# Altium footprint library ECEN_1400.PcbLib: 52 footprints (part 3 of 4)
Each footprint in its own frame and in the unit in brackets; x right, y up, seen from the top. Pads: shape width x height; smd on the part's side, far side on the other; paste and mask are expansions set on the pad; w line width, h text height; cw(c..) or ccw(c..) is an arc to the next point about the centre after c.
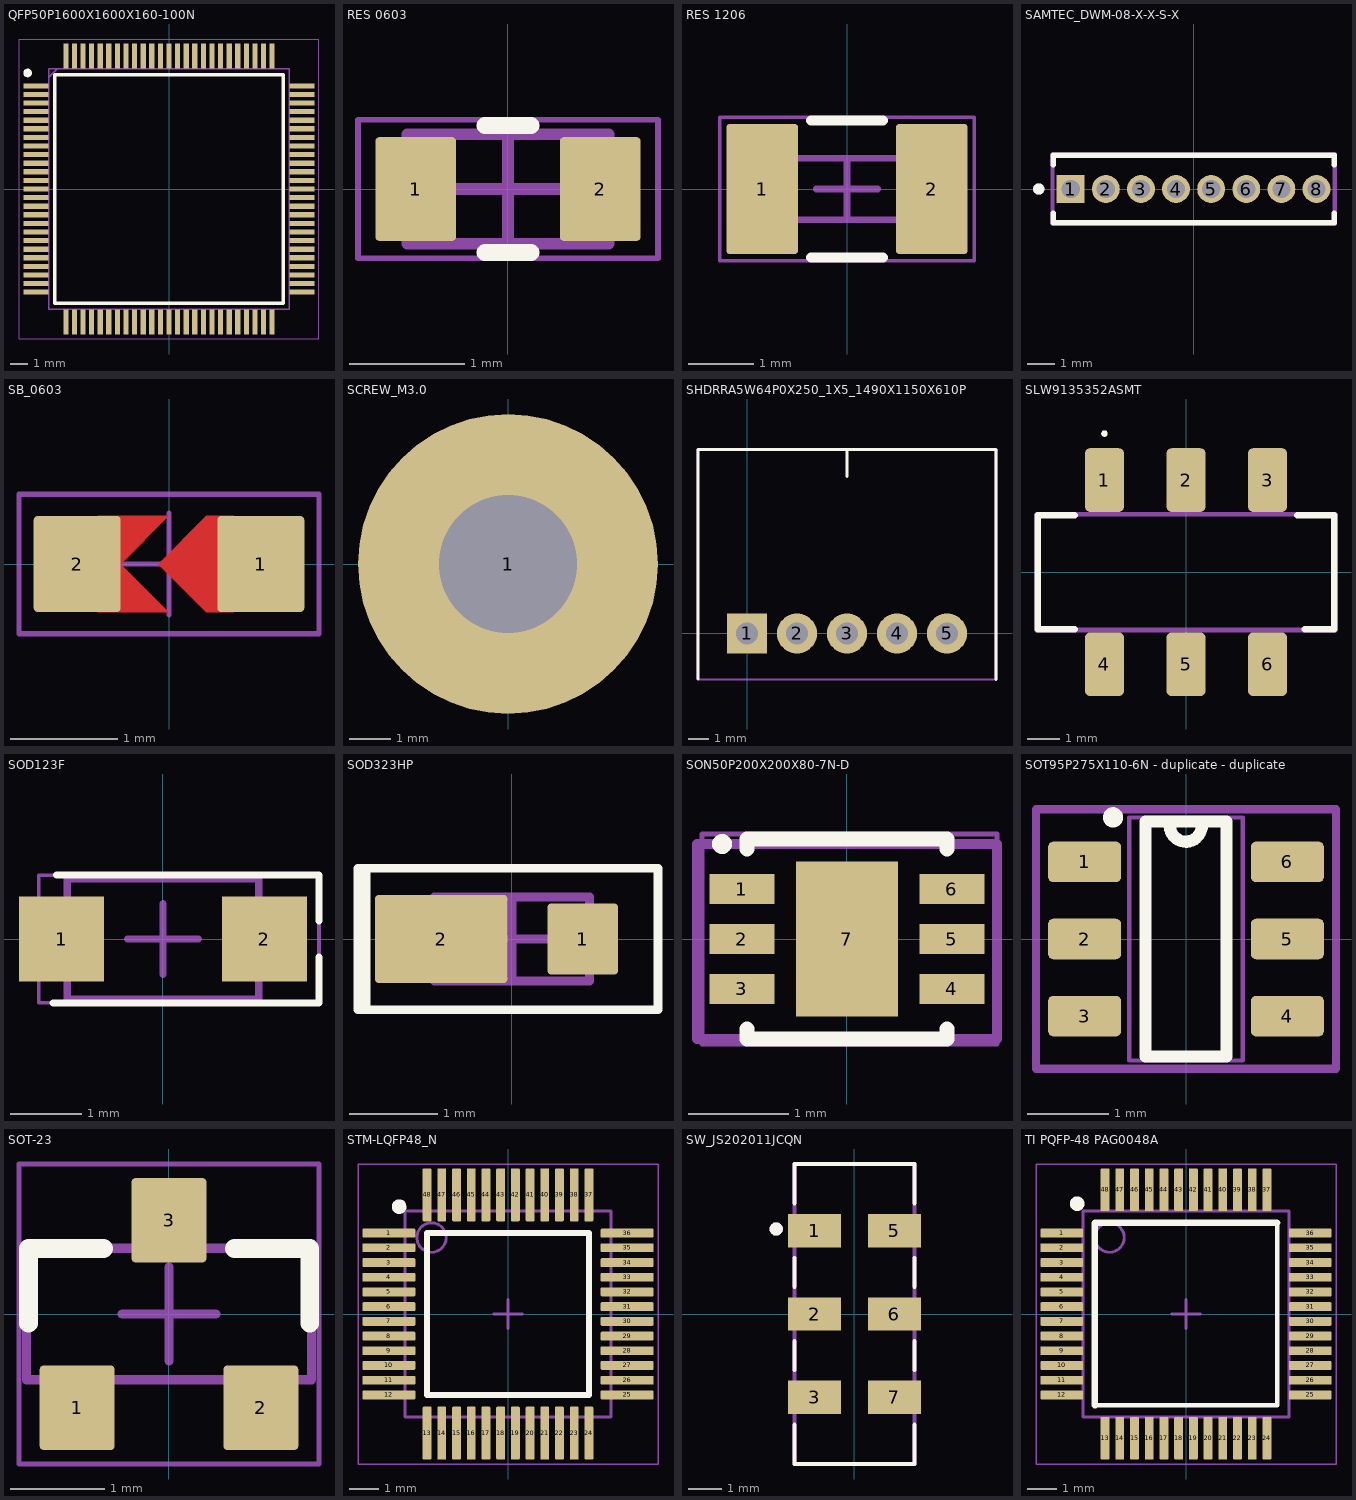
[diagram p2: the footprints below, top view; thin cyan lines are the x and y axes]

## QFP50P1600X1600X160-100N [mm]
pads (100):
  rect 1.475x0.3 smd: 1(-7.738,6) 2(-7.738,5.5) 3(-7.738,5) 4(-7.738,4.5) 5(-7.738,4) 6(-7.738,3.5) 7(-7.738,3) 8(-7.738,2.5) 9(-7.738,2) 10(-7.738,1.5) 11(-7.738,1) 12(-7.738,0.5) 13(-7.738,0) 14(-7.738,-0.5) 15(-7.738,-1) 16(-7.738,-1.5) 17(-7.738,-2) 18(-7.738,-2.5) 19(-7.738,-3) 20(-7.738,-3.5) 21(-7.738,-4) 22(-7.738,-4.5) 23(-7.738,-5) 24(-7.738,-5.5) 25(-7.738,-6) 51(7.738,-6) 52(7.738,-5.5) 53(7.738,-5) 54(7.738,-4.5) 55(7.738,-4) 56(7.738,-3.5) 57(7.738,-3) 58(7.738,-2.5) 59(7.738,-2) 60(7.738,-1.5) 61(7.738,-1) 62(7.738,-0.5) 63(7.738,0) 64(7.738,0.5) 65(7.738,1) 66(7.738,1.5) 67(7.738,2) 68(7.738,2.5) 69(7.738,3) 70(7.738,3.5) 71(7.738,4) 72(7.738,4.5) 73(7.738,5) 74(7.738,5.5) 75(7.738,6)
  rect 0.3x1.475 smd: 26(-6,-7.738) 27(-5.5,-7.738) 28(-5,-7.738) 29(-4.5,-7.738) 30(-4,-7.738) 31(-3.5,-7.738) 32(-3,-7.738) 33(-2.5,-7.738) 34(-2,-7.738) 35(-1.5,-7.738) 36(-1,-7.738) 37(-0.5,-7.738) 38(0,-7.738) 39(0.5,-7.738) 40(1,-7.738) 41(1.5,-7.738) 42(2,-7.738) 43(2.5,-7.738) 44(3,-7.738) 45(3.5,-7.738) 46(4,-7.738) 47(4.5,-7.738) 48(5,-7.738) 49(5.5,-7.738) 50(6,-7.738) 76(6,7.738) 77(5.5,7.738) 78(5,7.738) 79(4.5,7.738) 80(4,7.738) 81(3.5,7.738) 82(3,7.738) 83(2.5,7.738) 84(2,7.738) 85(1.5,7.738) 86(1,7.738) 87(0.5,7.738) 88(0,7.738) 89(-0.5,7.738) 90(-1,7.738) 91(-1.5,7.738) 92(-2,7.738) 93(-2.5,7.738) 94(-3,7.738) 95(-3.5,7.738) 96(-4,7.738) 97(-4.5,7.738) 98(-5,7.738) 99(-5.5,7.738) 100(-6,7.738)
Top Overlay:
  circle w0.25: c-8.225,6.75 r0.125
  lines w0.2: -6.65,-6.65 6.65,-6.65 6.65,6.65 -6.65,6.65 -6.65,-6.65
Mechanical 15:
  lines w0.1: -7,6.5 -6.5,7 ; -7,-7 7,-7 7,7 -7,7 -7,-7
Mechanical 20:
  lines w0.05: -8.725,-8.725 8.725,-8.725 8.725,8.725 -8.725,8.725 -8.725,-8.725

## RES 0603 [mm] "Chip Resistor, 2-Leads, Body 1.60x0.80mm"
height 0.45
pads (2):
  rrect10% 0.7x0.9 smd: 1(-0.8,0) 2(0.8,0)
Top Overlay:
  lines w0.15: -0.2,-0.55 0.2,-0.55 ; -0.2,0.55 0.2,0.55
Top Courtyard:
  lines w0.05: -1.3,-0.6 1.3,-0.6 1.3,0.6 -1.3,0.6 -1.3,-0.6
Mechanical 13:
  lines w0.1: -0.875,-0.475 -0.875,0.475 0.875,0.475 0.875,-0.475 -0.875,-0.475
Mechanical 15:
  lines w0.1: -0.475,0 0.475,0 ; 0,-0.475 0,0.475
Mechanical 20:
  lines w0.05: -1.3,-0.6 1.3,-0.6 1.3,0.6 -1.3,0.6 -1.3,-0.6
3D body "0603 resistor.STEP": height 0.45, standoff 0, extent -0.8,-0.4 0.8,0.4

## RES 1206 [mm] "Chip Resistor, 2-Leads, Body 1.60x0.80mm"
height 0.45
pads (2):
  rrect10% 1.1x2 smd: 1(-1.3,0) 2(1.3,0)
Top Overlay:
  lines w0.15: -0.55,-1.05 0.55,-1.05 ; -0.55,1.05 0.55,1.05
Mechanical 13:
  lines w0.1: -0.875,-0.475 0.875,-0.475 0.875,0.475 -0.875,0.475 -0.875,-0.475
Mechanical 15:
  lines w0.05: -1.95,-1.1 1.95,-1.1 1.95,1.1 -1.95,1.1 -1.95,-1.1
  lines w0.1: -0.475,0 0.475,0 ; 0,-0.475 0,0.475
Mechanical 20:
  lines w0.05: -1.95,-1.1 1.95,-1.1 1.95,1.1 -1.95,1.1 -1.95,-1.1
3D body "0603 resistor.STEP": height 0.45, standoff 0, extent -0.8,-0.4 0.8,0.4

## SAMTEC_DWM-08-X-X-S-X [mm]
pads (8):
  rect 1.01x1.01 / inner round 1.01 / far side rect 1.01x1.01 hole 0.66: 1(-4.445,0)
  round 1.01 hole 0.66: 2(-3.175,0) 3(-1.905,0) 4(-0.635,0) 5(0.635,0) 6(1.905,0) 7(3.175,0) 8(4.445,0)
Top Overlay:
  circle w0.2: c-5.6,0 r0.1
  lines w0.2: -5.08,-0.87 -5.08,-1.22 5.08,-1.22 5.08,-0.87 ; -5.08,0.87 -5.08,1.22 5.08,1.22 5.08,0.87
Mechanical 13:
  circle w0.2: c-5.6,0 r0.1
  lines w0.1: -5.08,-1.22 -5.08,1.22 5.08,1.22 5.08,-1.22 -5.08,-1.22
Mechanical 15:
  lines w0.05: -5.15,-1.3 -5.15,1.3 5.15,1.3 5.15,-1.3 -5.15,-1.3

## SB_0603 [mm] "Jumper"
height 1
pads (2):
  rrect10% 0.813x0.9 smd mask+0.04: 1(0.857,0) 2(-0.857,0)
Top Layer:
  region: -0.667,0 -0.45,0 0,-0.45 -0.667,-0.45
  region: -0.667,0 -0.45,0 0,0.45 -0.667,0.45
  region: 0.603,0.45 0.35,0.45 -0.1,0 0.35,-0.45 0.603,-0.45
Top Solder:
  region: -0.737,0 -0.381,0 0.119,0.49 -0.737,0.49
  region: -0.737,0 -0.381,0 0.119,-0.49 -0.737,-0.49
  region: 0.684,0.49 0.32,0.49 -0.18,0 0.32,-0.49 0.684,-0.49
Mechanical 15:
  lines w0.05: -0.475,0 0.475,0 ; 0,-0.475 0,0.475 ; -1.4,-0.65 -1.4,0.65 1.4,0.65 1.4,-0.65 -1.4,-0.65

## SCREW_M3.0 [mm] "M3 Screw Close FIt"
pads (1):
  round 7.2 hole 3.301: 1(0,0)

## SHDRRA5W64P0X250_1X5_1490X1150X610P [mm]
pads (5):
  rect 2x2 / inner round 2 / far side rect 2x2 hole 1.1: 1(0,0)
  round 2 hole 1.1: 2(2.5,0) 3(5,0) 4(7.5,0) 5(10,0)
Top Overlay:
  lines w0.15: -2.45,-2.286 -2.45,9.2 12.45,9.2 12.45,-2.3 ; 5,7.85 5,9.2
Mechanical 15:
  lines w0.004: -2.45,-2.3 -2.45,9.2
  lines w0.1: -2.45,-2.3 12.45,-2.3
  lines w0.15: -2.45,9.2 12.45,9.2 12.45,-2.3
Mechanical 20:
  lines w0.05: -2.5,-2.3 -2.5,9.25 12.5,9.25 12.5,-2.3 -2.5,-2.3

## SLW9135352ASMT [mm]
pads (6):
  rrect25% 1.2x1.95 smd: 1(-2.5,2.825) 2(0,2.825) 3(2.5,2.825) 4(-2.5,-2.825) 5(0,-2.825) 6(2.5,-2.825)
Top Overlay:
  lines w0.1: -2.5,4.2 cw(c-2.5,4.25) -2.5,4.3 cw(c-2.5,4.25) -2.5,4.2
  lines w0.2: -4.095,1.75 -3.413,1.75 ; -3.64,1.75 -4.55,1.75 -4.55,-1.75 -3.413,-1.75 ; 3.412,1.75 4.55,1.75 4.55,-1.75 3.64,-1.75
Mechanical 15:
  lines w0.1: -4.55,-1.75 4.55,-1.75 4.55,1.75 -4.55,1.75 -4.55,-1.75
Mechanical 20:
  lines w0.1: -4.6,-1.8 4.6,-1.8 4.6,1.8 -4.6,1.8 -4.6,-1.8

## SOD123F [mm] "SODFL, 2-Leads, Body 1.60x3.50mm, IPC Medium Density"
height 1
pads (2):
  rect 1.2x1.2 smd: 1(-1.43,0) 2(1.43,0)
Top Overlay:
  lines w0.1: -1.55,-0.9 2.2,-0.9 2.2,-0.254 ; -1.5,0.9 2.2,0.9 2.2,0.254
Mechanical 13:
  lines w0.1: -1.35,-0.85 -1.35,0.85 1.35,0.85 1.35,-0.85 -1.35,-0.85
Mechanical 15:
  lines w0.05: -1.75,-0.9 2.2,-0.9 2.2,0.9 -1.75,0.9 -1.75,-0.9
  lines w0.1: -0.5,0 0.5,0 ; 0,-0.5 0,0.5
Mechanical 20:
  lines w0.05: -1.75,-0.9 2.2,-0.9 2.2,0.9 -1.75,0.9 -1.75,-0.9
3D body "SOD123F.STEP": height 1.1, standoff 0, extent -1.75,-0.8 1.75,0.8

## SOD323HP [mm] "Chip Resistor, 2-Leads, Body 1.60x0.80mm"
height 0.45
pads (2):
  rrect10% 0.8x0.8 smd: 1(0.8,0)
  rrect10% 1.5x1 smd: 2(-0.8,0)
Top Overlay:
  lines w0.1: -1.74,-0.71 -1.74,0.71 -1.65,0.8 ; -1.377,-0.8 -1.74,-0.8 -1.74,0.8 -1.65,0.8 ; -1.65,0.8 -1.65,-0.8 1.65,-0.8 1.65,0.8 -1.65,0.8
Mechanical 13:
  lines w0.1: -0.875,-0.475 0.875,-0.475 0.875,0.475 -0.875,0.475 -0.875,-0.475
Mechanical 15:
  lines w0.05: -1.74,-0.8 1.65,-0.8 1.65,0.8 -1.74,0.8 -1.74,-0.8
  lines w0.1: -0.475,0 0.475,0 ; 0,-0.475 0,0.475
Mechanical 20:
  lines w0.05: -1.74,-0.8 1.65,-0.8 1.65,0.8 -1.74,0.8 -1.74,-0.8
3D body "0603 resistor.STEP": height 0.45, standoff 0, extent -0.8,-0.4 0.8,0.4

## SON50P200X200X80-7N-D [mm]
pads (7):
  rect 0.65x0.3 smd: 1(-1.05,0.5) 2(-1.05,0) 3(-1.05,-0.5) 4(1.05,-0.5) 5(1.05,0) 6(1.05,0.5)
  rect 1.02x1.55 smd: 7(0,0)
Top Overlay:
  circle w0.15: c-1.25,0.95 r0.025
  lines w0.15: -1,-0.9 -1,-1 1,-1 ; -1,0.9 -1,1 1,1 ; 1,-0.9 1,-1 ; 1,0.9 1,1 ; 1,-1 1,-1 ; 1,1 1,1
Mechanical 15:
  lines w0.1: -1.5,-1 -1.5,0.95 1.5,0.95 1.5,-1 -1.5,-1
Mechanical 20:
  lines w0.05: -1.45,-1.05 1.5,-1.05 1.5,1.05 -1.45,1.05 -1.45,-1.05

## SOT95P275X110-6N - duplicate - duplicate [mm]
pads (6):
  rrect25% 0.9x0.5 smd: 1(-1.25,0.95) 2(-1.25,0) 3(-1.25,-0.95) 4(1.25,-0.95) 5(1.25,0) 6(1.25,0.95)
Top Overlay:
  circle w0.15: c-0.9,1.5 r0.05
  lines w0.15: -0.198,1.423 ccw(c-0.002,1.398) 0.195,1.406 ; -0.5,-1.45 -0.5,1.45 0.5,1.45 0.5,-1.45 -0.5,-1.45
Mechanical 15:
  lines w0.1: -1.85,-1.6 -1.85,1.6 1.85,1.6 1.85,-1.6 0.75,-1.6 -1.85,-1.6
Mechanical 20:
  lines w0.05: -0.7,-1.5 -0.7,1.5 0.7,1.5 0.7,-1.5 -0.7,-1.5

## SOT-23 [mm]
height 1.1
pads (3):
  rrect10% 0.8x0.9 smd: 1(-0.98,-1) 2(0.98,-1) 3(0,1)
Top Overlay:
  lines w0.2: -1.5,-0.1 -1.5,0.7 -0.7,0.7 ; 0.7,0.7 1.5,0.7 1.5,-0.1
Mechanical 13:
  lines w0.1: -1.52,-0.7 1.52,-0.7 1.52,0.7 -1.52,0.7 -1.52,-0.7
Mechanical 15:
  lines w0.05: -1.6,-1.6 1.6,-1.6 1.6,1.6 -1.6,1.6 -1.6,-1.6
  lines w0.1: -0.5,0 0.5,0 ; 0,-0.5 0,0.5
3D body: height 1.11, standoff 0.01, extent -1.52,-0.7 1.52,0.7

## STM-LQFP48_N [mm] "QFP, 48-Leads, Body 7x7mm, Pitch 0.5mm, IPC Medium Density"
height 1.6
pads (48):
  rrect25% 1.8x0.3 smd: 1(-4.05,2.75) 2(-4.05,2.25) 3(-4.05,1.75) 4(-4.05,1.25) 5(-4.05,0.75) 6(-4.05,0.25) 7(-4.05,-0.25) 8(-4.05,-0.75) 9(-4.05,-1.25) 10(-4.05,-1.75) 11(-4.05,-2.25) 12(-4.05,-2.75) 25(4.05,-2.75) 26(4.05,-2.25) 27(4.05,-1.75) 28(4.05,-1.25) 29(4.05,-0.75) 30(4.05,-0.25) 31(4.05,0.25) 32(4.05,0.75) 33(4.05,1.25) 34(4.05,1.75) 35(4.05,2.25) 36(4.05,2.75)
  rrect25% 0.3x1.8 smd: 13(-2.75,-4.05) 14(-2.25,-4.05) 15(-1.75,-4.05) 16(-1.25,-4.05) 17(-0.75,-4.05) 18(-0.25,-4.05) 19(0.25,-4.05) 20(0.75,-4.05) 21(1.25,-4.05) 22(1.75,-4.05) 23(2.25,-4.05) 24(2.75,-4.05) 37(2.75,4.05) 38(2.25,4.05) 39(1.75,4.05) 40(1.25,4.05) 41(0.75,4.05) 42(0.25,4.05) 43(-0.25,4.05) 44(-0.75,4.05) 45(-1.25,4.05) 46(-1.75,4.05) 47(-2.25,4.05) 48(-2.75,4.05)
Top Overlay:
  lines w0.2: -2.75,-2.75 -2.75,2.75 2.75,2.75 2.75,-2.75 -2.75,-2.75
  lines w0.25: -3.591,3.712 ccw(c-3.7,3.65) -3.575,3.65
Mechanical 13:
  circle w0.1: c-2.6,2.6 r0.5
  lines w0.1: -3.5,-3.5 -3.5,3.5 3.5,3.5 3.5,-3.5 -3.5,-3.5
Mechanical 15:
  lines w0.05: -5.1,-5.1 -5.1,5.1 5.1,5.1 5.1,-5.1 -5.1,-5.1
  lines w0.1: -0.5,0 0.5,0 ; 0,-0.5 0,0.5
3D body: height 1.6, standoff 0.05, extent -3.5,-3.5 3.5,3.5

## SW_JS202011JCQN [mm]
pads (6):
  rect 1.6x1 smd: 1(-1.2,2.5) 2(-1.2,0) 3(-1.2,-2.5) 5(1.2,2.5) 6(1.2,0) 7(1.2,-2.5)
Top Overlay:
  circle w0.2: c-2.35,2.55 r0.1
  lines w0.127: -1.8,-3.32 -1.8,-4.5 1.8,-4.5 1.8,-3.32 ; -1.8,-1.68 -1.8,-0.82 ; -1.8,0.82 -1.8,1.68 ; -1.8,3.32 -1.8,4.5 1.8,4.5 1.8,3.32 ; 1.8,-1.68 1.8,-0.82 ; 1.8,0.82 1.8,1.68
Mechanical 13:
  circle w0.2: c-2.35,2.55 r0.1
  lines w0.127: -1.8,-4.5 1.8,-4.5 1.8,4.5 -1.8,4.5 -1.8,-4.5
Mechanical 15:
  lines w0.05: -1.8,-4.5 1.8,-4.5 1.8,4.5 -1.8,4.5 -1.8,-4.5
Mechanical 20:
  lines w0.05: -1.8,-4.5 1.8,-4.5 1.8,4.5 -1.8,4.5 -1.8,-4.5

## TI PQFP-48 PAG0048A [mm] "TSQFP, 48-Leads, Body 7.00x7.00mm, Pitch 0.50mm, IPC Medium Density"
height 1.6
pads (48):
  rrect25% 1.45x0.3 smd: 1(-4.225,2.75) 2(-4.225,2.25) 3(-4.225,1.75) 4(-4.225,1.25) 5(-4.225,0.75) 6(-4.225,0.25) 7(-4.225,-0.25) 8(-4.225,-0.75) 9(-4.225,-1.25) 10(-4.225,-1.75) 11(-4.225,-2.25) 12(-4.225,-2.75) 25(4.225,-2.75) 26(4.225,-2.25) 27(4.225,-1.75) 28(4.225,-1.25) 29(4.225,-0.75) 30(4.225,-0.25) 31(4.225,0.25) 32(4.225,0.75) 33(4.225,1.25) 34(4.225,1.75) 35(4.225,2.25) 36(4.225,2.75)
  rrect25% 0.3x1.45 smd: 13(-2.75,-4.225) 14(-2.25,-4.225) 15(-1.75,-4.225) 16(-1.25,-4.225) 17(-0.75,-4.225) 18(-0.25,-4.225) 19(0.25,-4.225) 20(0.75,-4.225) 21(1.25,-4.225) 22(1.75,-4.225) 23(2.25,-4.225) 24(2.75,-4.225) 37(2.75,4.225) 38(2.25,4.225) 39(1.75,4.225) 40(1.25,4.225) 41(0.75,4.225) 42(0.25,4.225) 43(-0.25,4.225) 44(-0.75,4.225) 45(-1.25,4.225) 46(-1.75,4.225) 47(-2.25,4.225) 48(-2.75,4.225)
Top Overlay:
  circle w0.25: c-3.7,3.75 r0.125
  region: -3.2,-3.1 -3.2,3.1 -3.2,3.12 -3.185,3.157 -3.157,3.185 -3.12,3.2 -3.1,3.2 3.1,3.2 3.12,3.2 3.157,3.185 3.185,3.157 3.2,3.12 3.2,3.1 3.2,3.08 3.185,3.043 3.157,3.015 3.12,3 3.1,3 -3,3 -3,-3.1 -3,-3.142 -3.058,-3.2 -3.142,-3.2 -3.2,-3.142
  lines w0.15: -3.1,-3.1 3.1,-3.1 3.1,3.1 -3.1,3.1 -3.1,-3.1
Mechanical 13:
  circle w0.1: c-2.6,2.6 r0.5
  lines w0.1: -3.5,-3.5 3.5,-3.5 3.5,3.5 -3.5,3.5 -3.5,-3.5
Mechanical 15:
  lines w0.05: -5.1,-5.1 5.1,-5.1 5.1,5.1 -5.1,5.1 -5.1,-5.1
  lines w0.1: -0.5,0 0.5,0 ; 0,-0.5 0,0.5
3D body "TI - TQFP-48 (7x7) - PAG0048A v2.STEP": height 1.6, standoff 0, extent -4.483,-4.5 4.517,4.5